# Altium schematic symbol library TECAP.SchLib: 1 symbol
Pins are listed as number, name and electrical type; pins without a type are passive.

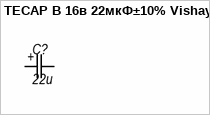
[diagram p0: symbol TECAP B 16в 22мкФ±10% Vishay]

## TECAP B 16в 22мкФ±10% Vishay
designator C?, comment 22u
Partnumber: TECAP B 16в 22мкФ±10% Vishay
footprint TECAP_B
pins: 1, 2
text: +